# Altium schematic symbol library IP4791CZ12.SchLib: 1 symbol
Pins are listed as number, name and electrical type; pins without a type are passive.

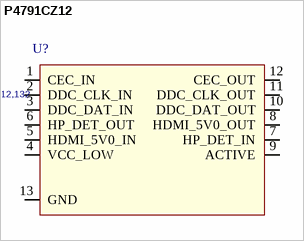
[diagram p0: symbol P4791CZ12]

## P4791CZ12
designator U?, comment P4791CZ12,132
BUY_LINK: http://www.digikey.com/product-detail/en/IP4791CZ12,132/568-7212-1-ND/2697723; PDF: http://www.nxp.com/documents/data_sheet/IP4791CZ12.pdf; PRICE: 1.37000; ID: P4791CZ12,132
footprint 12-HXSON
pins: 1 CEC_IN, 2 DDC_CLK_IN, 3 DDC_DAT_IN, 4 VCC_LOW, 5 HDMI_5V0_IN, 6 HP_DET_OUT, 7 HP_DET_IN, 8 HDMI_5V0_OUT, 9 ACTIVE, 10 DDC_DAT_OUT, 11 DDC_CLK_OUT, 12 CEC_OUT, 13 GND